# Altium footprint library Diode_SMD.PcbLib: 11 footprints
Each footprint in its own frame and in the unit in brackets; x right, y up, seen from the top. Pads: shape width x height; smd on the part's side, far side on the other; paste and mask are expansions set on the pad; w line width, h text height; cw(c..) or ccw(c..) is an arc to the next point about the centre after c.
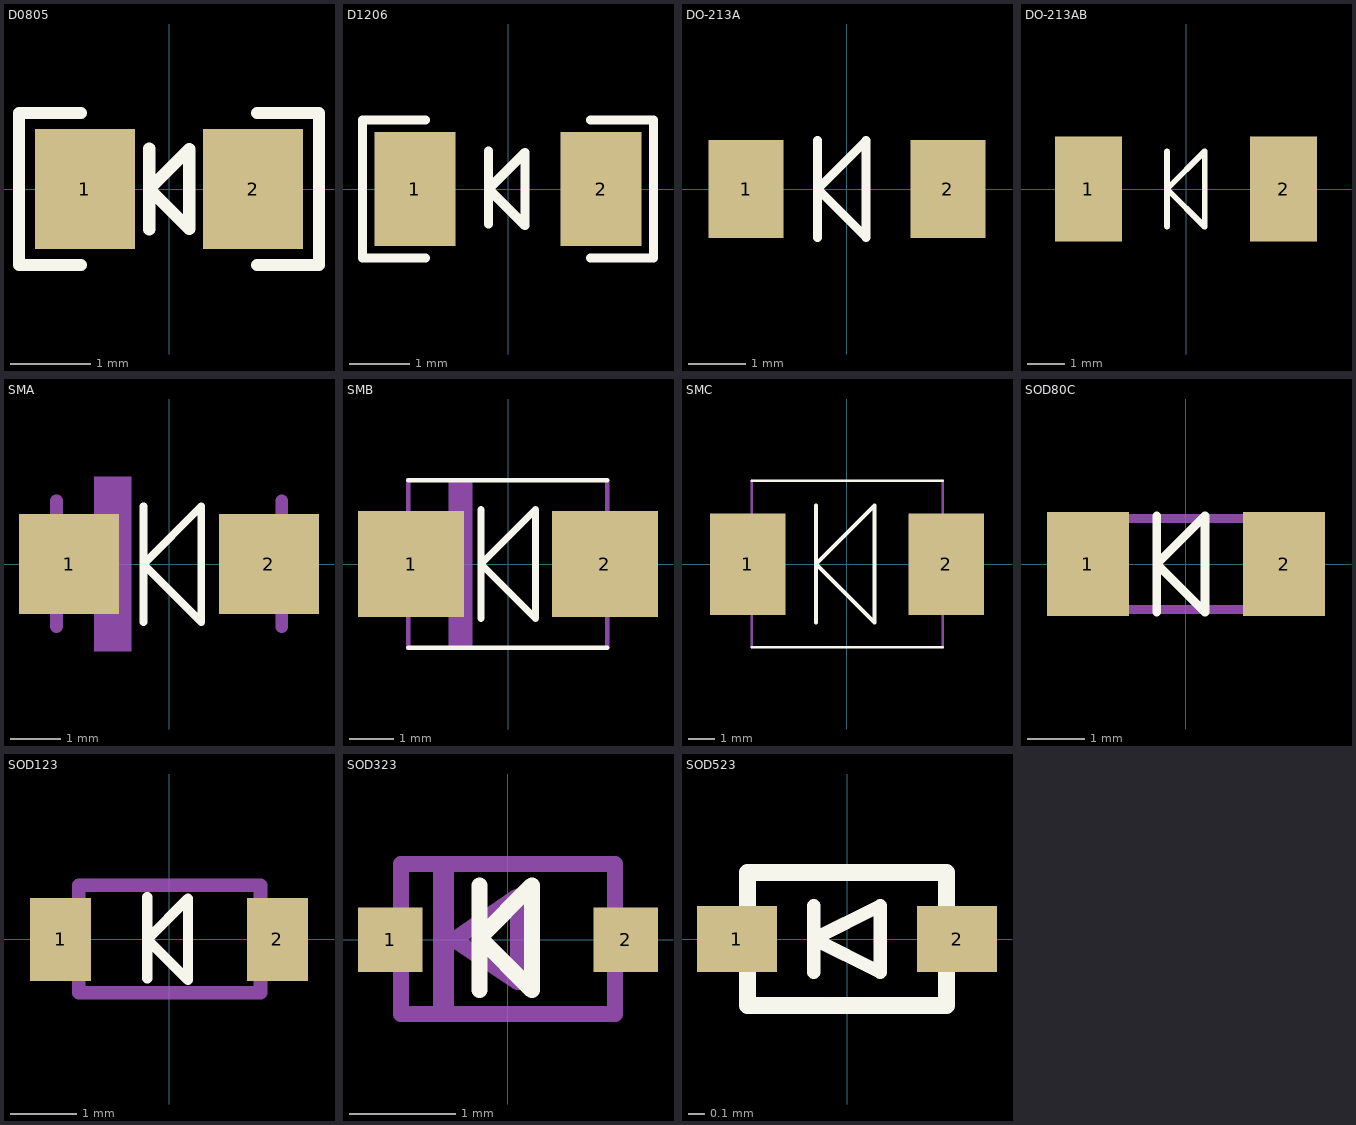
[diagram p0: the footprints below, top view; thin cyan lines are the x and y axes]

## D0805 [mm] "Chip Resistor, Body 2.0x1.3mm, IPC Low Density"
height 0.7
pads (2):
  rect 1.25x1.5 smd: 1(-1.05,0) 2(1.05,0)
Top Overlay:
  lines w0.152: -1.1,-0.95 -1.875,-0.95 -1.875,0.95 -1.1,0.95 ; -0.246,-0.508 -0.246,0.508 ; 1.1,-0.95 1.875,-0.95 1.875,0.95 1.1,0.95 ; -0.246,0 0.254,-0.5 0.254,0.5 -0.246,0
3D body: height 0.76, standoff 0, extent -1.15,-0.675 1.15,0.675

## D1206 [mm] "Chip Resistor, Body 3.2x1.6mm, IPC Low Density"
height 0.75
pads (2):
  rect 1.35x1.9 smd: 1(-1.55,0) 2(1.55,0)
Top Overlay:
  lines w0.152: -1.375,-1.15 -2.425,-1.15 -2.425,1.15 -1.375,1.15 ; -0.325,-0.583 -0.325,0.633 ; 1.375,-1.15 2.425,-1.15 2.425,1.15 1.375,1.15 ; -0.325,0 0.283,0.608 0.283,-0.608 -0.325,0
3D body: height 0.85, standoff 0, extent -1.675,-0.865 1.675,0.865

## DO-213A [mm]
pads (2):
  rect 1.3x1.7 smd: 1(-1.75,0) 2(1.75,0)
Top Overlay:
  lines w0.152: -0.509,-0.838 -0.509,0.838 ; -0.509,0 0.329,0.838 0.329,-0.838 -0.509,0
3D body: height 1.39, standoff -0.01, extent -1.75,-0.7 1.75,0.7

## DO-213AB [mm]
pads (2):
  rect 1.8x2.8 smd: 1(-2.6,0) 2(2.6,0)
Top Overlay:
  lines w0.152: -0.509,-1 -0.509,1 ; -0.509,0 0.5,1.009 0.5,-1.009 -0.509,0
3D body: height 2.49, standoff -0.01, extent -2.5,-1.25 2.5,1.25

## SMA [mil]
pads (2):
  rect 79x79 smd: 1(-78.87,0) 2(78.87,0)
Top Overlay:
  lines w6: -20.13,-45.72 -20.13,45.72 ; -20.13,0 25.59,-45.72 25.59,45.72 -20.13,0
Mechanical 16:
  rectangle: -59.19,-68.9 -29.66,69
  rectangle: -110.37,-31.5 -93.83,32
  rectangle: 93.87,-32.48 110.87,32
  lines w10: -88.71,-49.21 -88.71,50 ; 88.87,-49.21 88.87,50
3D body: height 86.65, standoff 0, extent -98.42,-53.14 98.43,53.16

## SMB [mil]
pads (2):
  rect 95x95 smd: 1(-86.81,0) 2(86.81,0)
Top Overlay:
  lines w4: -89.19,-75 88.81,-75 ; -89.19,75 88.81,75
  lines w6: -24.13,-48.74 -24.13,48.74 ; -24.13,0 24.61,48.74 24.61,-48.74 -24.13,0
Mechanical 16:
  rectangle: -110.19,-43 -89.19,43
  rectangle: 88.81,-43 109.81,43
  rectangle: -53.34,-74.8 -31.69,75
  lines w4: -89.19,-75 -89.19,75 ; 88.81,-75 88.81,75
3D body: height 88.62, standoff 0, extent -104.32,-72.83 104.34,72.84

## SMC [mil]
pads (2):
  rect 111x150 smd: 1(-145.83,0) 2(145.83,0)
Top Overlay:
  lines w4: -140.35,-122.24 140.83,-122.24 ; -140.35,123 140.83,123
  lines w6: -45.76,-85.63 -45.76,86.59 ; -45.76,0.48 40.35,-85.63 40.35,86.59 -45.76,0.48
Mechanical 16:
  rectangle: 140.83,-43 161.83,43
  rectangle: -161.35,-43 -140.35,43
  lines w4: -140.35,-122.24 -140.35,123 ; 140.83,-122.24 140.83,123
3D body: height 96.5, standoff 0, extent -153.53,-116.13 153.55,116.15

## SOD80C [mil]
pads (2):
  rect 56x71 smd: 1(-66.96,0) 2(66.96,0)
Top Overlay:
  lines w6: -20.04,-33 -20.04,33 ; -20.04,0 12.96,33 12.96,-33 -20.04,0
Mechanical 16:
  rectangle: 50.96,-34 72.96,34
  rectangle: -73.04,-34 -51.04,34
  lines w6: -52.04,-31 51.96,-31 ; -52.04,31 51.96,31
3D body: height 58.79, standoff -0.26, extent -68.89,-29.52 68.9,29.53

## SOD123 [mil]
pads (2):
  rect 36x49 smd: 1(-63.99,0) 2(63.99,0)
Top Overlay:
  lines w6: -12.8,-22.96 -12.8,24.93 ; -12.8,0 11.15,23.95 11.15,-23.95 -12.8,0
Mechanical 16:
  region: 70.99,22 56.99,22 56.99,-21.65 70.99,-21.65
  rectangle: -70.88,-21.65 -56.11,22
  lines w8: -53.16,-31.5 -53.16,32 53.99,32 53.99,-31.5 -53.16,-31.5
3D body: height 50, standoff 0, extent -72.84,-31.5 72.83,31.5

## SOD323 [mil]
pads (2):
  rect 24x24 smd: 1(-43.65,0) 2(43.65,0)
Top Overlay:
  lines w6: -10.55,-18.7 -10.55,20.12 ; -10.55,0.71 8.86,-18.7 8.86,20.12 -10.55,0.71
Mechanical 16:
  rectangle: -27.91,-27.56 -20.03,28
  lines w6: -39.72,-27.56 -39.72,28 39.65,28 39.65,-27.56 -39.72,-27.56 ; -20.03,0 3.65,-15.75 3.65,16 -20.03,0
3D body: height 43.31, standoff 0, extent -51.18,-26.58 51.18,26.57

## SOD523 [mm]
pads (2):
  rect 0.48x0.4 smd: 1(-0.663,0) 2(0.663,0)
Top Overlay:
  lines w0.08: -0.2,-0.2 -0.2,0.2 ; -0.2,0 0.2,-0.2 0.2,0.2 -0.2,0
  lines w0.102: -0.6,-0.4 0.6,-0.4 0.6,0.4 -0.6,0.4 -0.6,-0.4
3D body: height 0.7, standoff 0, extent -0.8,-0.399 0.8,0.399